# Altium integrated library MC0603B682K500CT.IntLib: 1 symbol
Pins are listed as number, name and electrical type; pins without a type are passive.

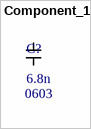
[diagram p0: symbol Component_1]

## Component_1
designator C?, comment 6.8n  PCB Package: 0603
Buying URL:: https://uk.farnell.com/multicomp/mc0603b682k500ct/cap-6800pf-50v-10-x7r-0603/dp/1759100?st=6.8nf%200603
footprint CAPC1608X10N (Chip Capacitor, 2-Leads, Body 1.60x0.80mm, IPC Medium Density)
pins: 1, 2